# Altium footprint library DXPpcb.PCBLIB: 575 footprints (part 1 of 36)
Each footprint in its own frame and in the unit in brackets; x right, y up, seen from the top. Pads: shape width x height; smd on the part's side, far side on the other; paste and mask are expansions set on the pad; w line width, h text height; cw(c..) or ccw(c..) is an arc to the next point about the centre after c.
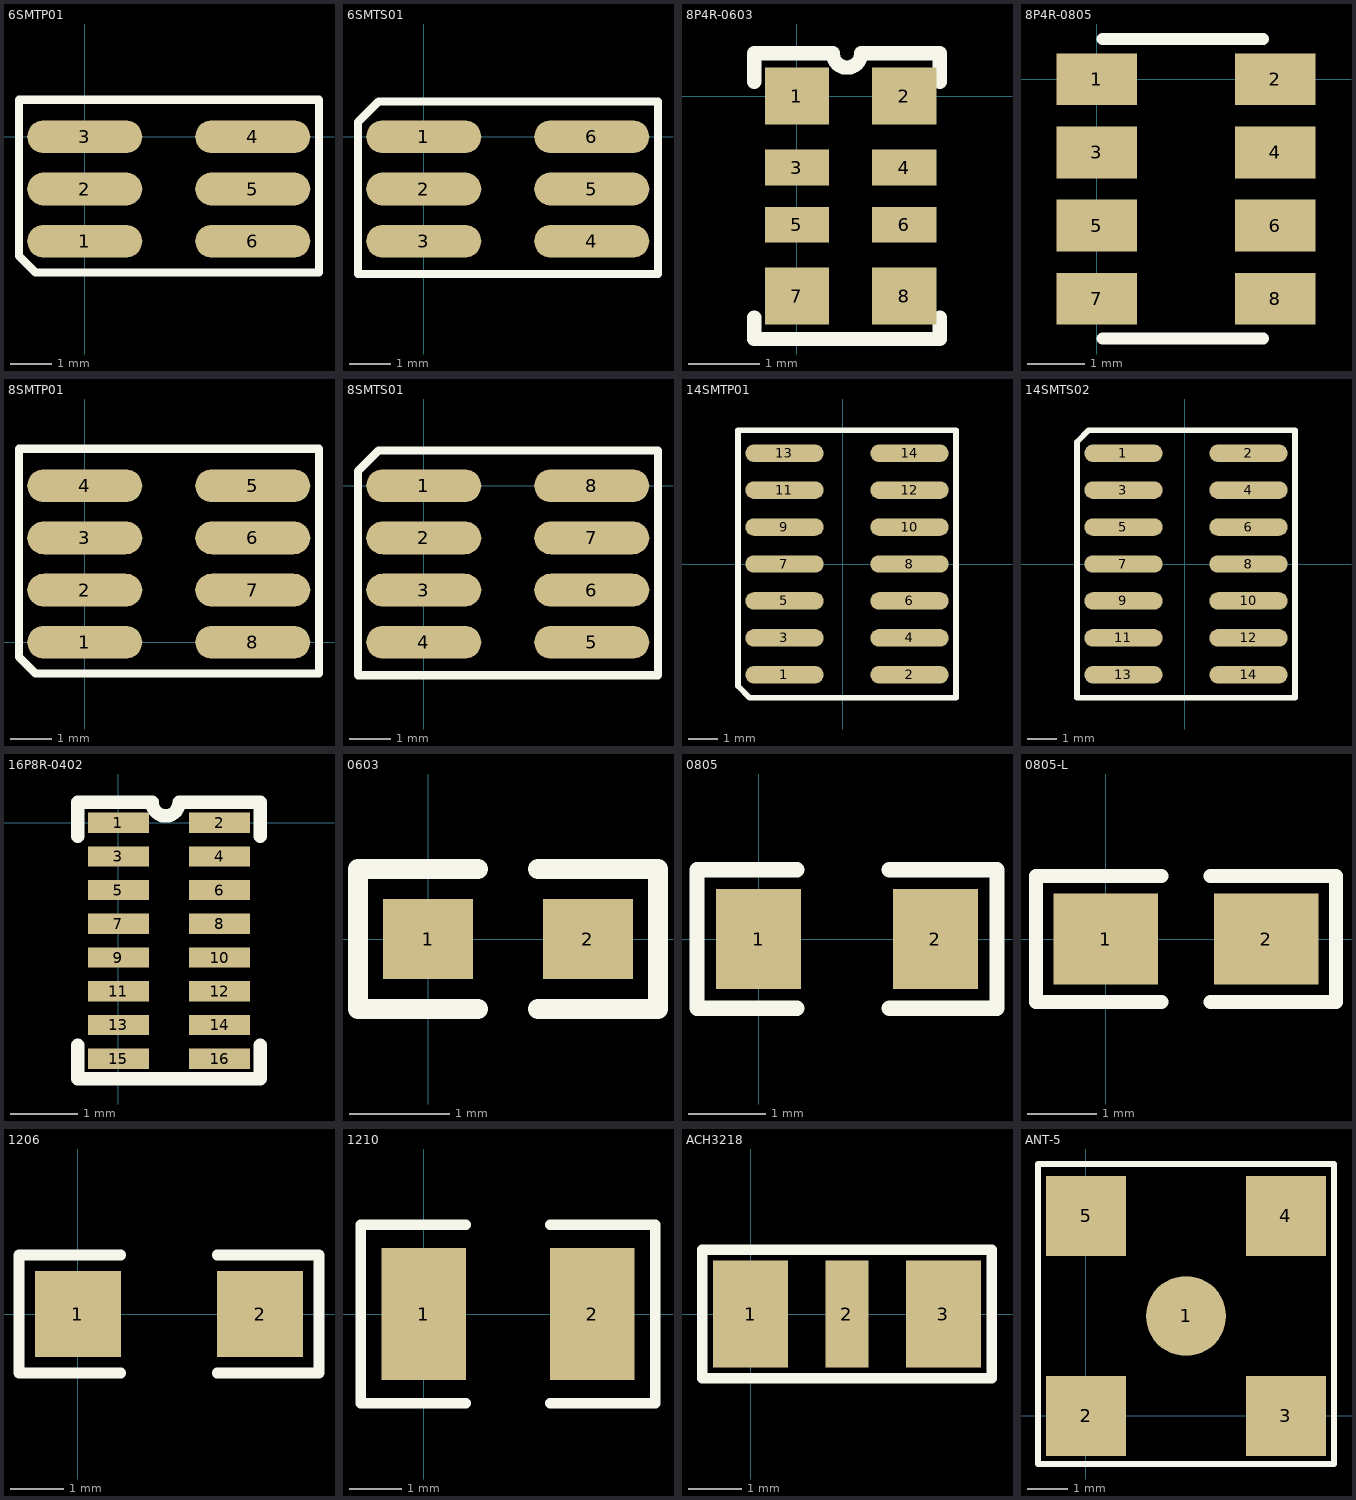
[diagram p0: the footprints below, top view; thin cyan lines are the x and y axes]

## 6SMTP01 [mm]
pads (6):
  oval 2.8x0.8 smd: 1(0,-2.54) 2(0,-1.27) 3(0,0) 4(4.088,0) 5(4.088,-1.27) 6(4.088,-2.54)
TopOverlay:
  lines w0.2: -1.6,-2.9 -1.2,-3.3 5.7,-3.3 5.7,0.9 -1.6,0.9 -1.6,-2.9

## 6SMTS01 [mm]
pads (6):
  oval 2.8x0.8 smd: 1(0,0) 2(0,-1.27) 3(0,-2.54) 4(4.088,-2.54) 5(4.088,-1.27) 6(4.088,0)
TopOverlay:
  lines w0.2: -1.6,-3.34 -1.6,0.36 -1.1,0.86 5.7,0.86 5.7,-3.34 -1.6,-3.34

## 8P4R-0603 [mm]
pads (8):
  rect 0.9x0.8 smd: 1(0,0) 2(1.5,0) 7(0,-2.8) 8(1.5,-2.8)
  rect 0.9x0.5 smd: 3(0,-1) 4(1.5,-1) 5(0,-1.8) 6(1.5,-1.8)
TopOverlay:
  lines w0.2: -0.6,-3.1 -0.6,-3.4 2,-3.4 2,-3.1 ; -0.6,0.2 -0.6,0.6 0.5,0.6 ccw(c0.7,0.6) 0.9,0.6 2,0.6 2,0.2

## 8P4R-0805 [mm]
pads (8):
  rect 1.4x0.9 smd: 1(0,0) 2(3.1,0) 3(0,-1.27) 4(3.1,-1.27) 5(0,-2.54) 6(3.1,-2.54) 7(0,-3.81) 8(3.1,-3.81)
TopOverlay:
  lines w0.203: 0.1,-4.5 2.894,-4.5 ; 0.1,0.7 2.894,0.7

## 8SMTP01 [mm]
pads (8):
  oval 2.8x0.8 smd: 1(0,0) 2(0,1.27) 3(0,2.54) 4(0,3.81) 5(4.088,3.81) 6(4.088,2.54) 7(4.088,1.27) 8(4.088,0)
TopOverlay:
  lines w0.2: -1.6,4.7 -1.6,-0.36 -1.2,-0.76 5.7,-0.76 5.7,4.7 ; -1.6,4.71 5.7,4.71

## 8SMTS01 [mm]
pads (8):
  oval 2.8x0.8 smd: 1(0,0) 2(0,-1.27) 3(0,-2.54) 4(0,-3.81) 5(4.088,-3.81) 6(4.088,-2.54) 7(4.088,-1.27) 8(4.088,0)
TopOverlay:
  lines w0.2: -1.6,-4.61 5.7,-4.61 ; -1.6,-4.6 -1.6,0.36 -1.1,0.86 5.7,0.86 5.7,-4.6

## 14SMTP01 [mm]
pads (14):
  oval 2.7x0.6 smd: 1(-2,-3.81) 2(2.3,-3.81) 3(-2,-2.54) 4(2.3,-2.54) 5(-2,-1.27) 6(2.3,-1.27) 7(-2,0) 8(2.3,0) 9(-2,1.27) 10(2.3,1.27) 11(-2,2.54) 12(2.3,2.54) 13(-2,3.81) 14(2.3,3.81)
TopOverlay:
  lines w0.2: -3.6,-4.2 -3.6,4.6 3.9,4.6 3.9,-4.6 -3.2,-4.6 -3.6,-4.2

## 14SMTS02 [mm]
pads (14):
  oval 2.7x0.6 smd: 1(-2.1,3.81) 2(2.2,3.81) 3(-2.1,2.54) 4(2.2,2.54) 5(-2.1,1.27) 6(2.2,1.27) 7(-2.1,0) 8(2.2,0) 9(-2.1,-1.27) 10(2.2,-1.27) 11(-2.1,-2.54) 12(2.2,-2.54) 13(-2.1,-3.81) 14(2.2,-3.81)
TopOverlay:
  lines w0.2: -3.7,-4.6 3.8,-4.6 3.8,4.6 -3.3,4.6 -3.7,4.2 -3.7,-4.6

## 16P8R-0402 [mm]
pads (16):
  rect 0.9x0.3 smd: 1(0,0) 2(1.5,0) 3(0,-0.5) 4(1.5,-0.5) 5(0,-1) 6(1.5,-1) 7(0,-1.5) 8(1.5,-1.5) 9(0,-2) 10(1.5,-2) 11(0,-2.5) 12(1.5,-2.5) 13(0,-3) 14(1.5,-3) 15(0,-3.5) 16(1.5,-3.5)
TopOverlay:
  lines w0.2: -0.6,-3.3 -0.6,-3.8 2.1,-3.8 2.1,-3.3 ; -0.6,-0.2 -0.6,0.3 0.5,0.3 ccw(c0.7,0.3) 0.9,0.3 2.1,0.3 2.1,-0.2

## 0603 [mm]
pads (2):
  rect 0.9x0.8 smd: 1(0,0) 2(1.6,0)
TopOverlay:
  lines w0.2: 0.5,-0.7 -0.7,-0.7 -0.7,0.7 0.5,0.7 ; 1.1,-0.7 2.3,-0.7 2.3,0.7 1.1,0.7

## 0805 [mm]
pads (2):
  rect 1.1x1.3 smd: 1(0,0) 2(2.3,0)
TopOverlay:
  lines w0.2: 0.5,-0.9 -0.8,-0.9 -0.8,0.9 0.5,0.9 ; 1.7,-0.9 3.1,-0.9 3.1,0.9 1.7,0.9

## 0805-L [mm]
pads (2):
  rect 1.5x1.3 smd: 1(0,0) 2(2.3,0)
TopOverlay:
  lines w0.2: 0.8,-0.9 -1,-0.9 -1,0.9 0.8,0.9 ; 1.5,-0.9 3.3,-0.9 3.3,0.9 1.5,0.9

## 1206 [mm]
pads (2):
  rect 1.6x1.6 smd: 1(0,0) 2(3.4,0)
TopOverlay:
  lines w0.2: 0.8,-1.1 -1.1,-1.1 -1.1,1.1 0.8,1.1 ; 2.6,-1.1 4.5,-1.1 4.5,1.1 2.6,1.1

## 1210 [mm]
pads (2):
  rect 1.6x2.5 smd: 1(0,0) 2(3.2,0)
TopOverlay:
  lines w0.2: 0.8,-1.7 -1.2,-1.7 -1.2,1.7 0.8,1.7 ; 2.4,-1.7 4.4,-1.7 4.4,1.7 2.4,1.7

## ACH3218 [mm]
pads (3):
  rect 1.4x2 smd: 1(0,0) 3(3.6,0)
  rect 0.8x2 smd: 2(1.8,0)
TopOverlay:
  lines w0.2: -0.9,-1.2 -0.9,1.2 4.5,1.2 4.5,-1.2 -0.9,-1.2

## ANT-5 [mm]
pads (5):
  round 2 smd: 1(2.509,2.488)
  rect 2x2 smd: 2(0.009,-0.012) 3(5.009,-0.012) 4(5.009,4.988) 5(0.009,4.988)
TopOverlay:
  lines w0.15: -1.191,-1.212 -1.191,6.288 6.209,6.288 6.209,-1.212 -1.191,-1.212